# Altium footprint library CEL S02.PCBLIB: 1 footprints
Each footprint in its own frame and in the unit in brackets; x right, y up, seen from the top. Pads: shape width x height; smd on the part's side, far side on the other; paste and mask are expansions set on the pad; w line width, h text height; cw(c..) or ccw(c..) is an arc to the next point about the centre after c.
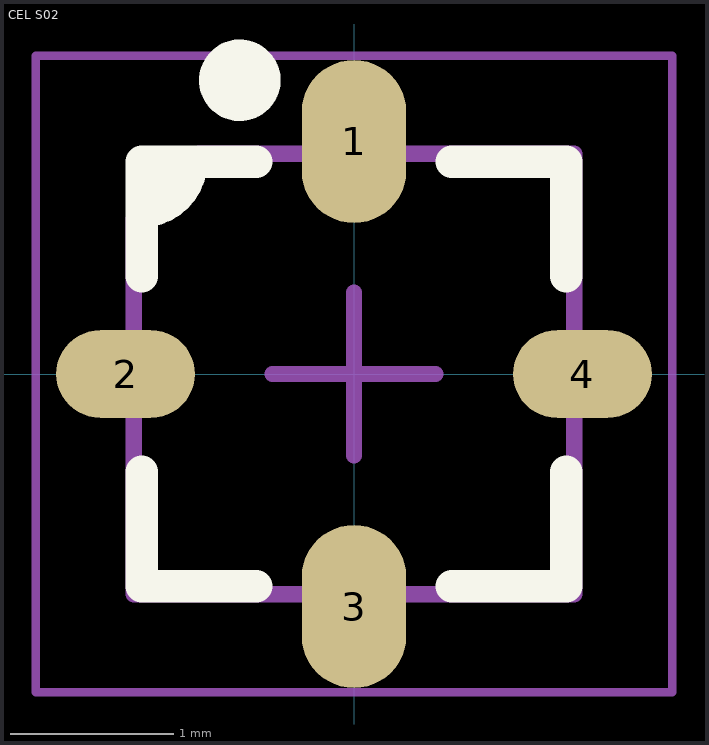
[diagram p0: the footprint, top view; thin cyan lines are the x and y axes]

## CEL S02 [mm] "S02, 4-Leads, Body 3.20x3.20mm, Pitch 1.270mm, IPC High Density"
height 1.5
pads (4):
  oval 0.64x1 smd: 1(0,1.425) 3(0,-1.425)
  oval 0.85x0.54 smd: 2(-1.4,0) 4(1.4,0)
Top Overlay:
  circle w0.25: c-0.7,1.8 r0.125
  region: -1,1.3 -1.3,1.3 -1.3,1 -1.2,1 -1,1.2
  lines w0.2: -1.3,-0.6 -1.3,-1.3 -0.6,-1.3 ; -1.3,0.6 -1.3,1.3 -0.6,1.3 ; -1.3,1 ccw(c-1.3,1.3) -1,1.3 ; 0.6,-1.3 1.3,-1.3 1.3,-0.6 ; 0.6,1.3 1.3,1.3 1.3,0.6
Mechanical 13:
  lines w0.1: -1.35,-1.35 -1.35,0.95 -0.95,1.35 1.35,1.35 1.35,-1.35 -1.35,-1.35
Mechanical 15:
  lines w0.05: -1.95,-1.95 -1.95,1.95 1.95,1.95 1.95,-1.95 -1.95,-1.95
  lines w0.1: -0.5,0 0.5,0 ; 0,-0.5 0,0.5
3D body "CEL S02 MiniX.STEP": height 1.5, standoff -0.01, extent -1.6,-1.6 1.6,1.6